# Altium integrated library I2C_MB.IntLib: 5 symbols
Pins are listed as number, name and electrical type; pins without a type are passive.

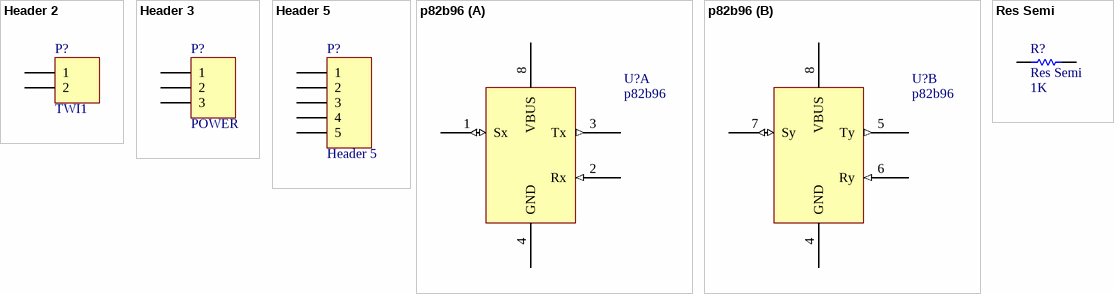
[diagram p0: symbols Header 2 to Res Semi]

## Header 2
designator P?, comment TWI1
Header, 2-Pin; LatestRevisionDate: 17-Jul-2002; LatestRevisionNote: Re-released for DXP Platform.; Publisher: Altium Limited
footprint HDR1X2 (Connector; Header; 2 Position)
signal-integrity model Connector
pins: 1, 2

## Header 3
designator P?, comment POWER
Header, 3-Pin; LatestRevisionDate: 17-Jul-2002; LatestRevisionNote: Re-released for DXP Platform.; Publisher: Altium Limited
footprint HDR1X3 (Connector; Header; 3 Position)
signal-integrity model Connector
pins: 1, 2, 3

## Header 5
designator P?
Header, 5-Pin; LatestRevisionDate: 17-Jul-2002; LatestRevisionNote: Re-released for DXP Platform.; Publisher: Altium Limited
footprint HDR1X5 (Connector; Header; 5 Position)
signal-integrity model Connector
pins: 1, 2, 3, 4, 5

## p82b96
designator U?
footprint SOIC8
part A pins: 1 Sx (io), 2 Rx (in), 3 Tx (out), 4 GND (power), 8 VBUS (power)
part B pins: 4 GND (power), 5 Ty (out), 6 Ry (in), 7 Sy (io), 8 VBUS (power)

## Res Semi
designator R?  value 1K
Semiconductor Resistor; Published: 8-Jun-2000; LatestRevisionDate: 17-Jul-2002; LatestRevisionNote: Re-released for DXP Platform.; PackageReference: AXIAL-0.5; Publisher: Altium Limited
footprint AXIAL-0.5 (Axial Device, Thru-Hole; 2 Leads; 0.5 in Pin Spacing)
footprint RESC1005L (Chip Resistor, Body 1.1x0.5mm, IPC High Density)
footprint RESC1608L (Chip Resistor, Body 1.6x0.8mm, IPC High Density)
footprint RESC2012L (Chip Resistor, Body 2.0x1.3mm, IPC High Density)
footprint RESC3216L (Chip Resistor, Body 3.1x1.6mm, IPC High Density)
simulation model RES (Semiconductor Resistor)
signal-integrity model Res Semi
pins: 1, 2